# EAGLE library part PC900V_DEV (library Photocoupler)
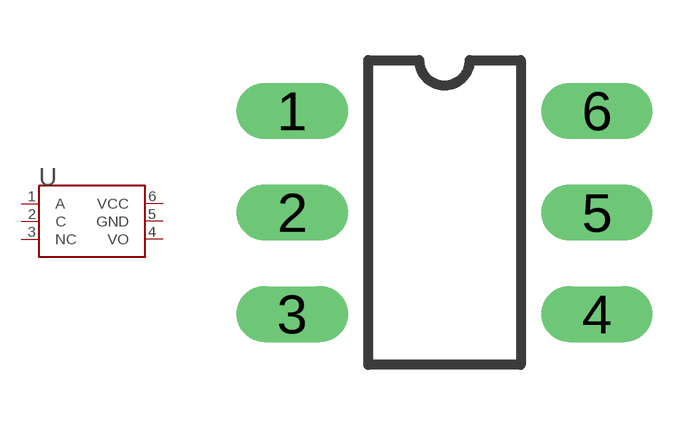
[diagram p1: symbol with the pads of PC900V_PAC; footprint PC900V_PAC]

Designator prefix -

## PC900V_DEV  [PC900V_PAC]
1  A
2  C
3  NC  nc
4  VO
5  GND  sup
6  VCC  pwr

## Footprint PC900V_PAC (pad centres in mm)
drill 0.889 pad 1.372 long: 1 -3.81,2.54; 2 -3.81,0; 3 -3.81,-2.54; 4 3.81,-2.54; 5 3.81,0; 6 3.81,2.54